# Altium footprint library SOT23-6.PcbLib: 1 footprints
Each footprint in its own frame and in the unit in brackets; x right, y up, seen from the top. Pads: shape width x height; smd on the part's side, far side on the other; paste and mask are expansions set on the pad; w line width, h text height; cw(c..) or ccw(c..) is an arc to the next point about the centre after c.
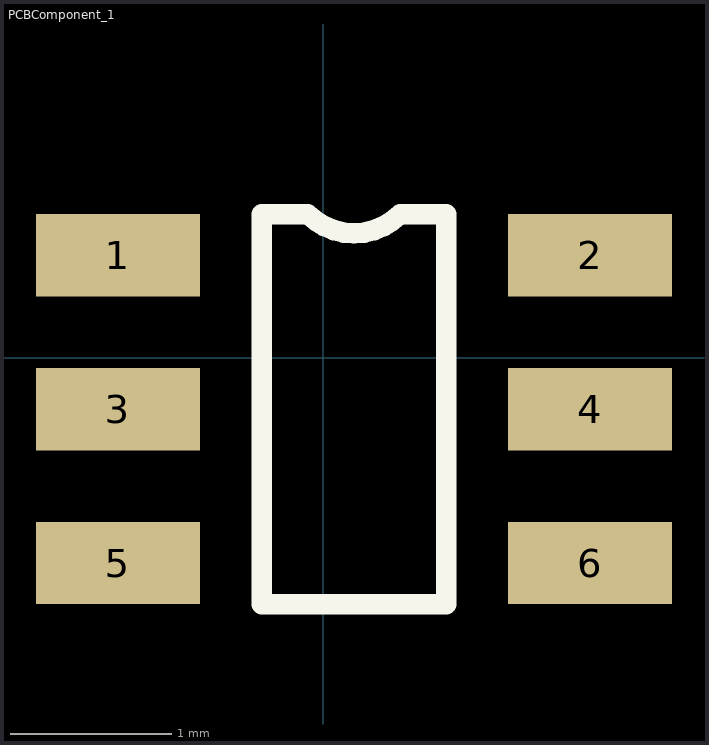
[diagram p0: the footprint, top view; thin cyan lines are the x and y axes]

## PCBComponent_1 [mil]
pads (6):
  rect 40x20 smd: 1(-50,25) 2(65,25) 3(-50,-12.5) 4(65,-12.5) 5(-50,-50) 6(65,-50)
Top Overlay:
  lines w5: -15,-60 -15,35 -3.75,35 ccw(c7.5,46.25) 18.75,35 30,35 30,-60 -15,-60